# Altium schematic symbol library DAC3162IRGZT.Schlib: 1 symbol
Pins are listed as number, name and electrical type; pins without a type are passive.

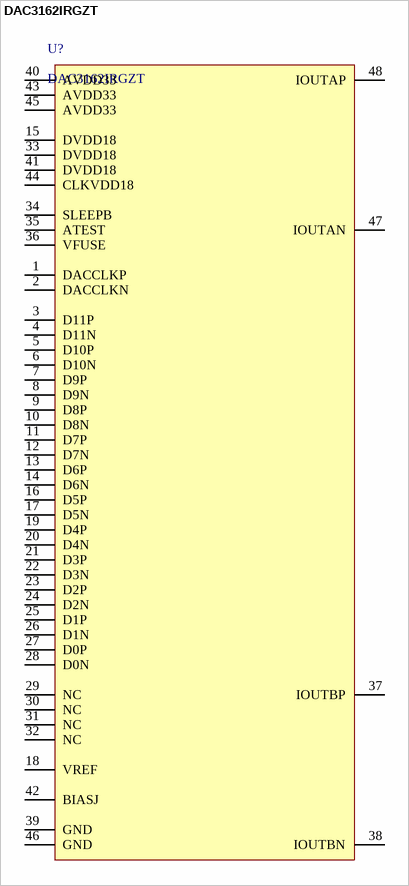
[diagram p0: symbol DAC3162IRGZT]

## DAC3162IRGZT
designator U?
12 Bit Digital to Analog Converter 2 48-VQFN (7x7)
pins: 1 DACCLKP, 2 DACCLKN, 3 D11P, 4 D11N, 5 D10P, 6 D10N, 7 D9P, 8 D9N, 9 D8P, 10 D8N, 11 D7P, 12 D7N, 13 D6P, 14 D6N, 15 DVDD18, 16 D5P, 17 D5N, 18 VREF, 19 D4P, 20 D4N, 21 D3P, 22 D3N, 23 D2P, 24 D2N, 25 D1P, 26 D1N, 27 D0P, 28 D0N, 29 NC, 30 NC, 31 NC, 32 NC, 33 DVDD18, 34 SLEEPB, 35 ATEST, 36 VFUSE, 37 IOUTBP, 38 IOUTBN, 39 GND, 40 AVDD33, 41 DVDD18, 42 BIASJ, 43 AVDD33, 44 CLKVDD18, 45 AVDD33, 46 GND, 47 IOUTAN, 48 IOUTAP